# Altium footprint library Inductors.PcbLib: 3 footprints
Each footprint in its own frame and in the unit in brackets; x right, y up, seen from the top. Pads: shape width x height; smd on the part's side, far side on the other; paste and mask are expansions set on the pad; w line width, h text height; cw(c..) or ccw(c..) is an arc to the next point about the centre after c.
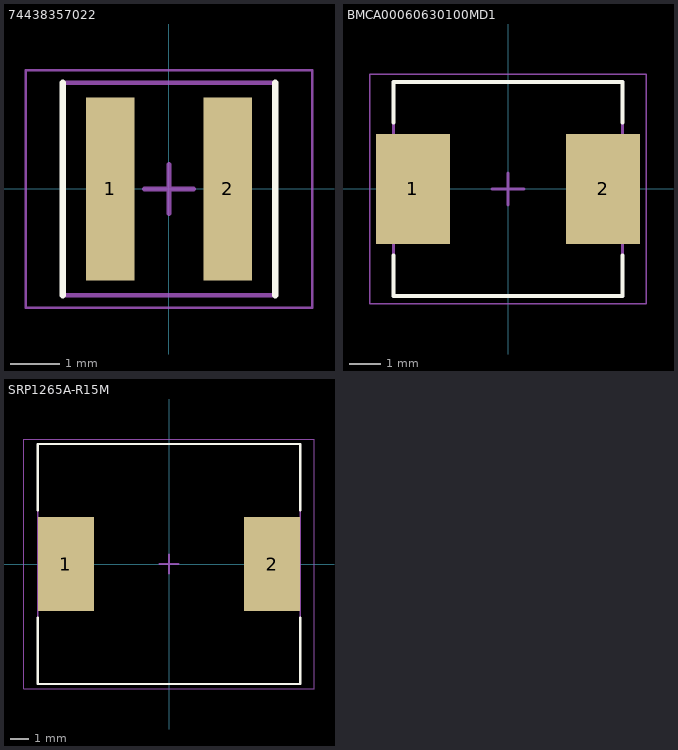
[diagram p0: the footprints below, top view; thin cyan lines are the x and y axes]

## 74438357022 [mm] "2.2 µH Shielded Molded Inductor 5.2 A 26mOhm Max 1616 (4040 Metric)"
height 3.1
pads (2):
  rect 0.98x3.7 smd mask+0.07: 1(-1.185,0) 2(1.185,0)
Top Overlay:
  lines w0.127: -2.15,-2.15 -2.15,2.15 ; 2.15,-2.15 2.15,2.15
Top Assembly:
  lines w0.1: -2.15,-2.15 -2.15,2.15 2.15,2.15 2.15,-2.15 -2.15,-2.15
  text ".Designator" at -1.801,-0.181 h0.8
Top Courtyard:
  lines w0.05: -2.9,-2.4 -2.9,2.4 2.9,2.4 2.9,-2.4 -2.9,-2.4
  lines w0.1: -0.5,0 0.5,0 ; 0,-0.5 0,0.5
3D body "Download_WE-MAPI-4030_stp+%28rev1%29.stp": height 3.1, standoff 0, extent -2.05,-2.05 2.05,2.05

## BMCA00060630100MD1 [mm] "10 µH Shielded Molded Inductor 3 A 102mOhm Max Nonstandard"
height 3
pads (2):
  rect 2.35x3.5 smd mask+0.07: 1(-3.025,0) 2(3.025,0)
Top Overlay:
  lines w0.127: -3.65,-2.114 -3.65,-3.4 3.65,-3.4 3.65,-2.114 ; -3.65,2.113 -3.65,3.4 3.65,3.4 3.65,2.113
Top Assembly:
  lines w0.1: -3.65,-3.4 3.65,-3.4 3.65,3.4 -3.65,3.4 -3.65,-3.4
  text ".Designator" at -2.252,-0.226 h1
Top Courtyard:
  lines w0.05: -4.4,-3.65 4.4,-3.65 4.4,3.65 -4.4,3.65 -4.4,-3.65
  lines w0.1: -0.5,0 0.5,0 ; 0,-0.5 0,0.5
3D body "INDM7066X30N.step": height 3, standoff 0, extent -3.87,-3.4 3.87,3.4

## SRP1265A-R15M [mm] "150 nH Shielded Drum Core, Wirewound Inductor 55 A 0.6mOhm Max Nonstandard"
height 6.5
pads (2):
  rect 3x5 smd mask+0.05: 1(-5.5,0) 2(5.5,0)
Top Overlay:
  lines w0.127: -7,-2.864 -7,-6.4 7,-6.4 7,-2.864 ; -7,2.864 -7,6.4 7,6.4 7,2.864
Top Assembly:
  lines w0.1: -7,-6.4 7,-6.4 7,6.4 -7,6.4 -7,-6.4
  text "'.Designator'" at -2.417,-0.226 h1
Top Courtyard:
  lines w0.05: -7.75,-6.65 7.75,-6.65 7.75,6.65 -7.75,6.65 -7.75,-6.65
  lines w0.1: -0.5,0 0.5,0 ; 0,-0.5 0,0.5
3D body "INDM135125X65N.step": height 6.5, standoff 0, extent -7.22,-6.4 7.22,6.4